# Altium schematic symbol library CN-U.FL-R-SMT(10).Schlib: 1 symbol
Pins are listed as number, name and electrical type; pins without a type are passive.

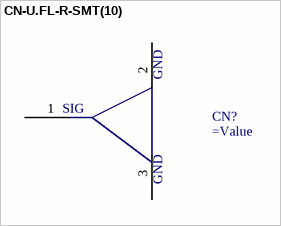
[diagram p0: symbol CN-U.FL-R-SMT(10)]

## CN-U.FL-R-SMT(10)
designator CN?
=Description
pins: 1 SIG, 2 GND, 3 GND